# Altium footprint library USBConnectors.PCBLIB: 26 footprints (part 2 of 2)
Each footprint in its own frame and in the unit in brackets; x right, y up, seen from the top. Pads: shape width x height; smd on the part's side, far side on the other; paste and mask are expansions set on the pad; w line width, h text height; cw(c..) or ccw(c..) is an arc to the next point about the centre after c.
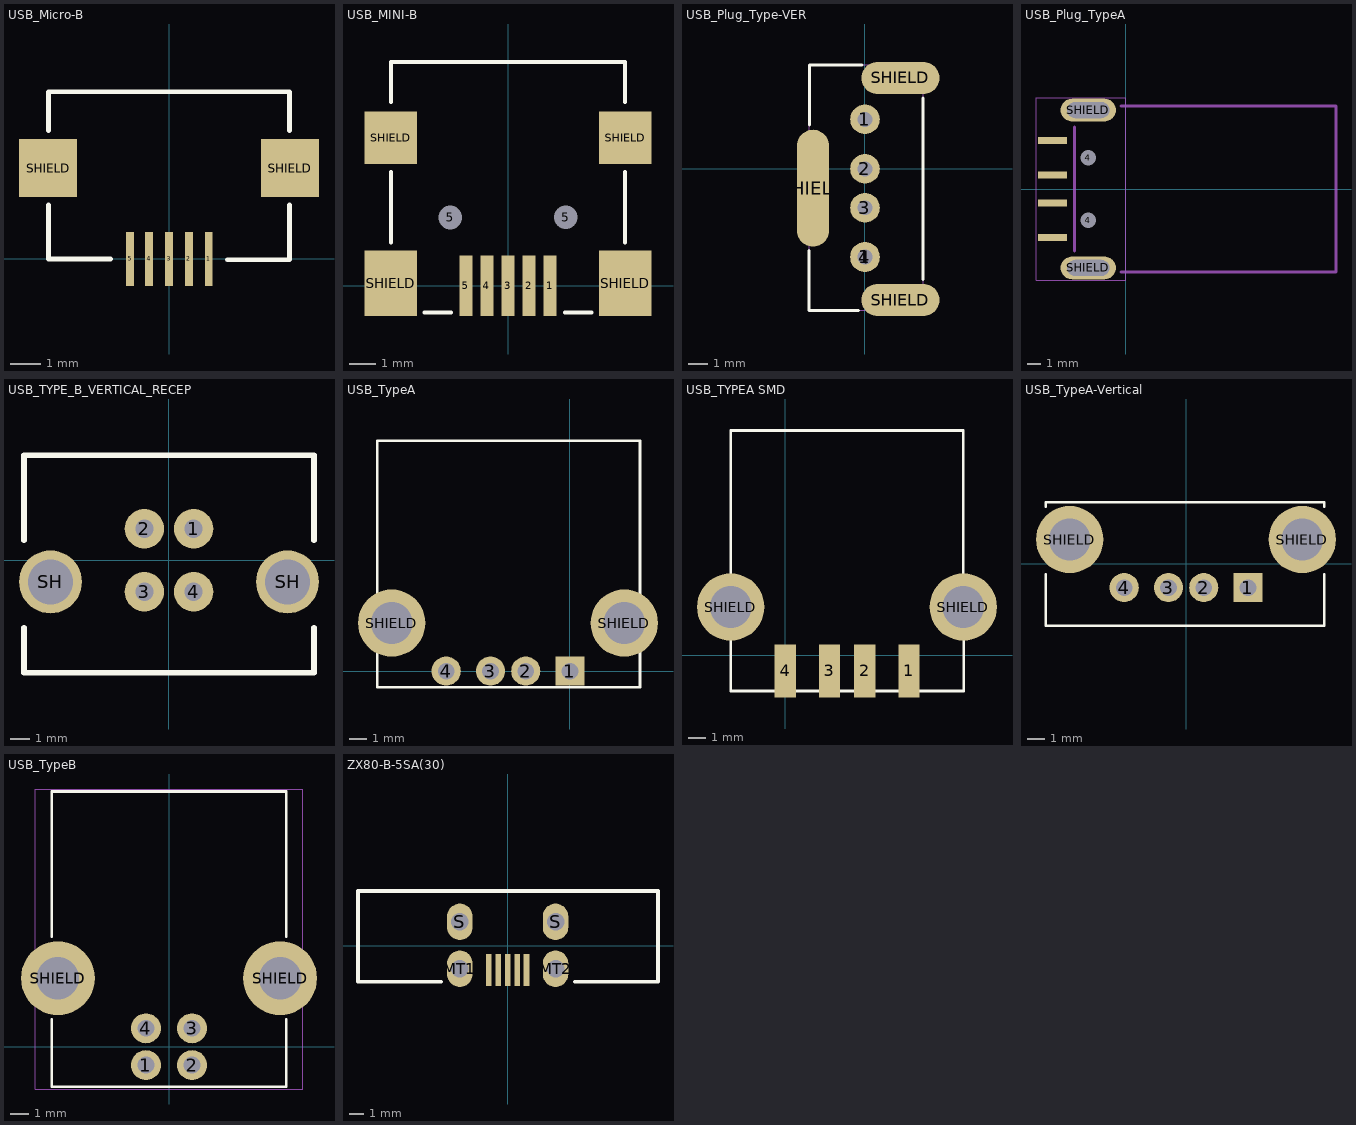
[diagram p1: the footprints below, top view; thin cyan lines are the x and y axes]

## USB_Micro-B [mil]
height 153.54
pads (7):
  rect 10x70 smd: 1(51.18,0) 2(25.59,0) 3(0,0) 4(-25.59,0) 5(-50,0)
  rect 74.8x74.8 smd: SHIELD(-155.51,116.84) SHIELD(155.51,116.84)
Top Overlay:
  lines w6: -155,69.8 -155,0 -75,0 ; -155,164.84 -155,215 155,215 155,164.84 ; 75,-1 155,-1 155,69.8
3D body "Micro USB.STP": height 106.7, standoff -9.04, extent -156.58,4.51 157.59,218.29

## USB_MINI-B [mm]
height 3.9
pads (11):
  rect 0.5x2.3 smd mask+0.025: 1(1.6,0) 2(0.8,0) 3(0,0) 4(-0.8,0) 5(-1.6,0)
  round 0.6 hole 0.9 unplated: 5(-2.2,2.6) 5(2.2,2.6)
  rect 2x2.5 smd mask+0: SHIELD(-4.45,0.1) SHIELD(4.45,0.1)
  rect 2x2 smd mask+0: SHIELD(-4.45,5.631) SHIELD(4.45,5.631)
Top Overlay:
  lines w0.152: -4.445,1.651 -4.445,4.318 ; -4.445,6.985 -4.445,8.509 4.445,8.509 4.445,6.985 ; -3.175,-1.016 -2.159,-1.016 ; 2.159,-1.016 3.175,-1.016 ; 4.445,1.651 4.445,4.318
3D body "User Library-USB_mini_B.STEP": height 3.95, standoff -1, extent -5.35,-0.7 5.35,8.5

## USB_Plug_Type-VER [mil]
height 177.17
pads (8):
  round 60 hole 30: 1(0,-177.74) 1(0,100) 2(0,0) 3(0,-78.74) 4(0,-178.74)
  oval 64.96x236.22 smd: SHIELD(-105,-39)
  oval 157.48x64.96 smd: SHIELD(71.7,-265.15) SHIELD(71.7,183.67)
Top Overlay:
  lines w5.91: -113,-165 -113,-286 -13,-286 ; -112,89 -112,210 -6,210 ; 117,-224 117,143
Mechanical 14:
  lines w2: -113,-285.74 -113,210 118,210 118,-285.74 -113,-285.74
3D body "14381.stp": height 736.72, standoff -62.49, extent -111.16,-287 117.16,209.29

## USB_Plug_TypeA [mm]
height 4.5
pads (8):
  rect 2.1x0.5 smd: 1(-5.3,3.5) 2(-5.3,1) 3(-5.3,-1) 4(-5.3,-3.5)
  round 0.8 hole 1.1 unplated: 4(-2.7,-2.25) 4(-2.7,2.25)
  oval 4x1.65 hole 1.143 slot 3.048 at 0 deg: SHIELD(-2.7,-5.7) SHIELD(-2.7,5.7)
Mechanical 13:
  lines w0.2: -3.7,-4.475 -3.7,4.475 ; -0.33,-6 15.2,-6 15.2,6 -0.33,6
Mechanical 14:
  lines w0.051: -6.477,-6.604 0,-6.604 0,6.604 -6.477,6.604 -6.477,-6.604
3D body "14381.stp": height 3.16, standoff -2.64, extent -5.212,-6.325 15.088,6.281

## USB_TYPE_B_VERTICAL_RECEP [mm]
pads (6):
  round 2 hole 0.92: 1(1.25,1.6) 2(-1.25,1.6) 3(-1.25,-1.6) 4(1.25,-1.6)
  round 3.2 hole 2.3: SH(-6.02,-1.1) SH(6.02,-1.1)
Top Overlay:
  lines w0.3: -7.366,-3.429 -7.366,-5.715 7.366,-5.715 7.366,-3.429 ; -7.366,1.016 -7.366,5.334 7.366,5.334 7.366,1.016
3D body "conector_usb_type_b.stp": height 16.11, standoff -4.2, extent -7.365,-5.805 7.335,5.395

## USB_TypeA [mil]
pads (6):
  rect 65x65 hole 37: 1(0,0)
  round 65 hole 37: 2(-98.5,0) 3(-177,0) 4(-275.6,0)
  round 150 hole 93: SHIELD(-397,107) SHIELD(121,107)
Top Overlay:
  lines w6: -429,-36 -429,139 -429,513 156,513 156,142 156,-36 -429,-36
3D body "M-UE27-AC54-100-REVT1.STEP": height 299.71, standoff -123.39, extent -428.29,-32 156.27,511.31

## USB_TYPEA SMD [mm]
pads (6):
  rect 1.2x3 smd: 1(7,-0.9) 2(4.498,-0.9) 3(2.504,-0.9) 4(0,-0.9)
  round 3.81 hole 2.362: SHIELD(-3.084,2.718) SHIELD(10.074,2.718)
Top Overlay:
  lines w0.152: 10.074,2.718 10.074,12.7 -3.084,12.7 -3.084,2.718 -3.084,-2.032 10.099,-2.032 10.099,2.718
3D body "54-00003.STEP": height 7.51, standoff -4.09, extent -4.32,-1.983 11.28,13.217

## USB_TypeA-Vertical [mil]
pads (6):
  rect 65x65 hole 37: 1(138,-53.5)
  round 65 hole 37: 2(39.5,-53.5) 3(-39,-53.5) 4(-137.6,-53.5)
  round 150 hole 93: SHIELD(-259,53.5) SHIELD(259,53.5)
Top Overlay:
  lines w5.98: -312,126.5 -312,136.5
  lines w6: -312,-23.5 -312,-138.5 308,-138.5 308,-23.5 ; -312,136.5 308,136.5 308,126.5
3D body "usb_ver.step": height 591.05, standoff -153.04, extent -312.82,-141.29 308.82,134.3

## USB_TypeB [mm]
height 11.1
pads (6):
  round 1.626 hole 0.914 mask+0.025: 1(-1.25,-0.995) 2(1.25,-0.995) 3(1.25,1.005) 4(-1.25,1.005)
  round 4 hole 2.3 mask+0: SHIELD(-6.02,3.715) SHIELD(6.02,3.715)
Top Overlay:
  lines w0.152: -6.35,1.495 -6.35,-2.159 6.35,-2.159 6.35,1.495 ; -6.35,5.969 -6.35,13.843 6.35,13.843 6.35,5.969
Mechanical 14:
  lines w0.051: -7.239,-2.286 7.239,-2.286 7.239,13.97 -7.239,13.97 -7.239,-2.286
3D body "User Library-Samtec - USB-B-S-X-W-TH.STEP": height 11.01, standoff -3.63, extent -7.374,-2.413 7.425,14.087

## ZX80-B-5SA(30) [mm]
pads (9):
  rect 0.4x2.2 smd: 1(-1.3,-1.649) 2(-0.65,-1.649) 3(0,-1.649) 4(0.65,-1.649) 5(1.3,-1.649)
  oval 1.75x2.5 hole 1.2: MT1(-3.281,-1.573) MT2(3.281,-1.572) S(-3.281,1.649) S(3.281,1.649)
Top Overlay:
  lines w0.254: -4.551,-2.462 -10.266,-2.462 -10.266,3.761 10.308,3.761 10.308,-2.462 4.593,-2.462
3D body "ZX80-B-5SA.stp": height 13.01, standoff -1.14, extent -10.26,-2.504 10.29,3.796